# Altium schematic symbol library LKS074DO_BRUSH.SCHLIB: 20 symbols
Pins are listed as number, name and electrical type; pins without a type are passive.

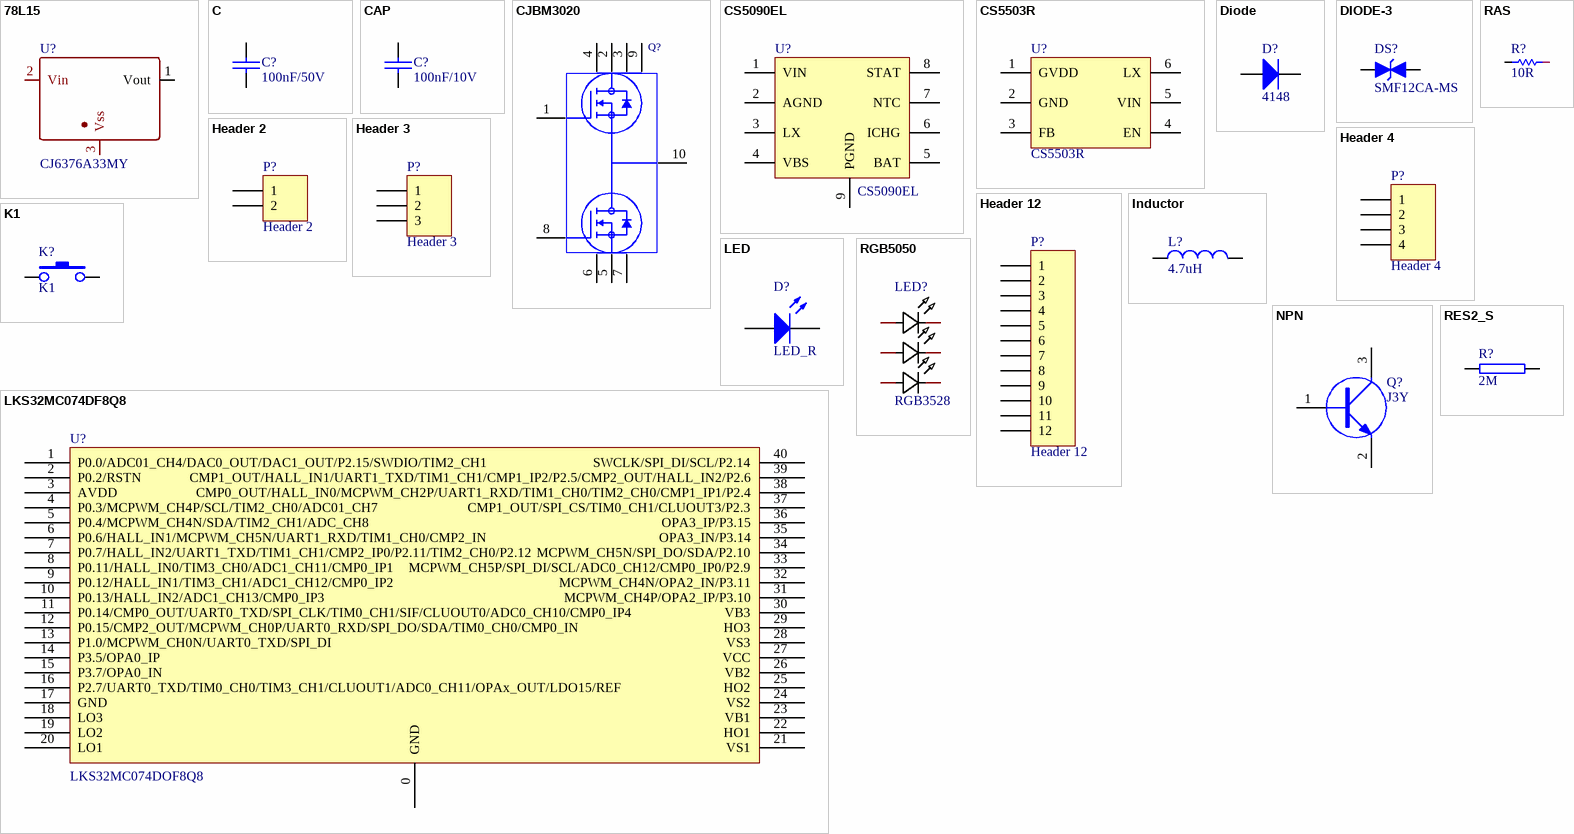
[diagram p0: symbols 78L15 to RGB5050]

## 78L15
designator U?, comment CJ6376A33MY
footprint SOT89-3
footprint SOT-23
pins: 1 Vout, 2 Vin, 3 Vss

## C
designator C?, comment 100nF/50V
Capacitor
footprint C5
footprint C7.5
footprint C10
footprint C12.5
footprint C0603
footprint C 0402_M (无极性贴片电容)
pins: 1, 2
2 alternate drawings of the same symbol

## CAP
designator C?, comment 100nF/10V
Capacitor
footprint 0402
footprint 0603C
footprint 0805C
footprint C 0402_M
pins: 1, 2
2 alternate drawings of the same symbol

## CJBM3020
designator Q?  (value not drawn)
PCB DECAL: DFN-3X3_8
footprint DFN-3X3_8
pins: 1 G1, 2 D1, 3 D1, 4 D1, 5 S2, 6 S2, 7 S2, 8 G2, 9 D1, 10 S1/D2

## CS5090EL
designator U?
footprint DFN2X2_8_0.5
pins: 1 VIN, 2 AGND, 3 LX, 4 VBS, 5 BAT, 6 ICHG, 7 NTC, 8 STAT, 9 PGND

## CS5503R
designator U?
footprint SOT23-6L
pins: 1 GVDD, 2 GND, 3 FB, 4 EN, 5 VIN, 6 LX

## Diode
designator D?, comment 4148
Default Diode; Published: 8-Jun-2000; LatestRevisionDate: 17-Jul-2002; LatestRevisionNote: Re-released for DXP Platform.; PackageDocument: Sep-1996; PackageReference: SMC; Publisher: Altium Limited; Code_JEDEC: DO-214-AB
footprint SMC
footprint D1808
footprint D1810
footprint D1206
footprint SOD-323
pins: 1 A, 2 K
2 alternate drawings of the same symbol

## DIODE-3
designator DS?, comment SMF12CA-MS
12V/19.9V
footprint SOD-123F
pins: 1 A, 2 K

## Header 2
designator P?
Header, 2-Pin; LatestRevisionDate: 17-Jul-2002; LatestRevisionNote: Re-released for DXP Platform.; Publisher: Altium Limited
signal-integrity model Connector
footprint X9827WRS-2P
footprint CONN_SMD_2P_0.6
pins: 1, 2

## Header 3
designator P?
Header, 3-Pin; LatestRevisionDate: 17-Jul-2002; LatestRevisionNote: Re-released for DXP Platform.; Publisher: Altium Limited
signal-integrity model Connector
footprint X9827WRS-3P
pins: 1, 2, 3

## Header 4
designator P?
Header, 4-Pin; LatestRevisionDate: 17-Jul-2002; LatestRevisionNote: Re-released for DXP Platform.; Publisher: Altium Limited
footprint HDR1X4 (Connector; Header; 4 Position)
signal-integrity model Connector
pins: 1, 2, 3, 4

## Header 12
designator P?
Header, 12-Pin; LatestRevisionDate: 17-Jul-2002; LatestRevisionNote: Re-released for DXP Platform.; Publisher: Altium Limited
signal-integrity model Connector
footprint SMD-12
pins: 1, 2, 3, 4, 5, 6, 7, 8, 9, 10, 11, 12

## Inductor
designator L?, comment 4.7uH
Inductor; Code_IEC: 1005; Published: 8-Jun-2000; LatestRevisionDate: 17-Jul-2002; LatestRevisionNote: Re-released for DXP Platform.; PackageReference: 0402-A; Publisher: Altium Limited; Code_JEITA: 0402
simulation model INDUCTOR (Inductor)
signal-integrity model Inductor
footprint 0420-L
pins: 1, 2

## K1
designator K?
footprint Button3x4x2
pins: 1, 2
2 alternate drawings of the same symbol

## LED
designator D?, comment LED_R
footprint LED
footprint SMDLED
pins: 1 A, 2 K

## LKS32MC074DF8Q8
designator U?, comment LKS32MC074DOF8Q8
芯片
footprint QFN40 (LINKO-084D)
pins: 0 GND, 1 P0.0/ADC01_CH4/DAC0_OUT/DAC1_OUT/P2.15/SWDIO/TIM2_CH1, 2 P0.2/RSTN, 3 AVDD, 4 P0.3/MCPWM_CH4P/SCL/TIM2_CH0/ADC01_CH7, 5 P0.4/MCPWM_CH4N/SDA/TIM2_CH1/ADC_CH8, 6 P0.6/HALL_IN1/MCPWM_CH5N/UART1_RXD/TIM1_CH0/CMP2_IN, 7 P0.7/HALL_IN2/UART1_TXD/TIM1_CH1/CMP2_IP0/P2.11/TIM2_CH0/P2.12, 8 P0.11/HALL_IN0/TIM3_CH0/ADC1_CH11/CMP0_IP1, 9 P0.12/HALL_IN1/TIM3_CH1/ADC1_CH12/CMP0_IP2, 10 P0.13/HALL_IN2/ADC1_CH13/CMP0_IP3, 11 P0.14/CMP0_OUT/UART0_TXD/SPI_CLK/TIM0_CH1/SIF/CLUOUT0/ADC0_CH10/CMP0_IP4, 12 P0.15/CMP2_OUT/MCPWM_CH0P/UART0_RXD/SPI_DO/SDA/TIM0_CH0/CMP0_IN, 13 P1.0/MCPWM_CH0N/UART0_TXD/SPI_DI, 14 P3.5/OPA0_IP, 15 P3.7/OPA0_IN, 16 P2.7/UART0_TXD/TIM0_CH0/TIM3_CH1/CLUOUT1/ADC0_CH11/OPAx_OUT/LDO15/REF, 17 GND, 18 LO3, 19 LO2, 20 LO1, 21 VS1, 22 HO1, 23 VB1, 24 VS2, 25 HO2, 26 VB2, 27 VCC, 28 VS3, 29 HO3, 30 VB3, 31 MCPWM_CH4P/OPA2_IP/P3.10, 32 MCPWM_CH4N/OPA2_IN/P3.11, 33 MCPWM_CH5P/SPI_DI/SCL/ADC0_CH12/CMP0_IP0/P2.9, 34 MCPWM_CH5N/SPI_DO/SDA/P2.10, 35 OPA3_IN/P3.14, 36 OPA3_IP/P3.15, 37 CMP1_OUT/SPI_CS/TIM0_CH1/CLUOUT3/P2.3, 38 CMP0_OUT/HALL_IN0/MCPWM_CH2P/UART1_RXD/TIM1_CH0/TIM2_CH0/CMP1_IP1/P2.4, 39 CMP1_OUT/HALL_IN1/UART1_TXD/TIM1_CH1/CMP1_IP2/P2.5/CMP2_OUT/HALL_IN2/P2.6, 40 SWCLK/SPI_DI/SCL/P2.14

## NPN
designator Q?, comment J3Y
NPN Transistor
footprint SOT-23
pins: 1 B, 2 E, 3 C

## RAS
designator R?, comment 10R
footprint R 0402_M (1/16W贴片电阻)
pins: 1, 2

## RES2_S
designator R?, comment 2M
footprint 0805
footprint 0603_RON
footprint 1206
footprint 0402
footprint C 0402_M
pins: 1, 2

## RGB5050
designator LED?, comment RGB3528
footprint SMD3528-RGB
pins: 1 -, 2 -, 3 -, 4 +, 5 +, 6 +